# EAGLE library part TJCTM24028 (library project library)
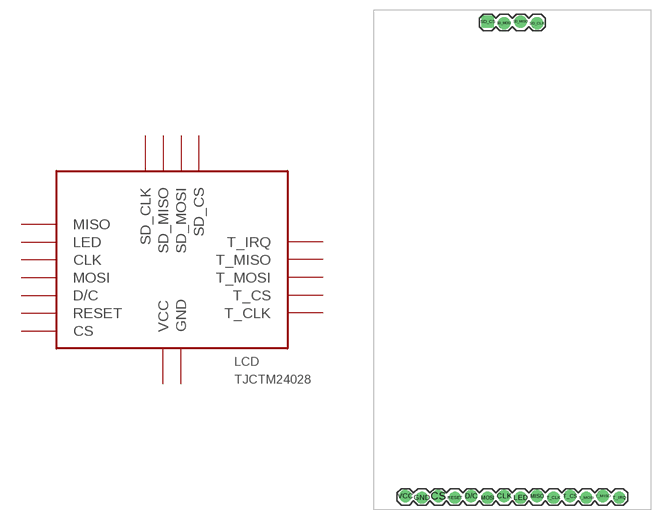
[diagram p2: symbol with the pads of TJCTM24028-SPI; footprint TJCTM24028-SPI]

Designator prefix LCD

## TJCTM24028  [TJCTM24028-SPI]
CLK  CLK
CS  CS
D/C  D/C
GND  GND
LED  LED
MISO  MISO
MOSI  MOSI
RESET  RESET
SD_CLK  SD_CLK
SD_CS  SD_CS
SD_MISO  SD_MISO
SD_MOSI  SD_MOSI
T_CLK  T_CLK
T_CS  T_CS
T_IRQ  T_IRQ
T_MISO  T_MISO
T_MOSI  T_MOSI
VCC  VCC

## Footprint TJCTM24028-SPI (pad centres in mm)
drill 1.016 pad 1.88: CLK 15.24,0.127; CS 5.08,0.127; D/C 10.16,0.127; GND 2.54,-0.127; LED 17.78,-0.127; MISO 20.32,0.127; MOSI 12.7,-0.127; RESET 7.62,-0.127; SD_CLK 20.32,73.083; SD_MISO 17.78,73.337; SD_MOSI 15.24,73.083; T_CLK 22.86,-0.127; T_CS 25.4,0.127; T_IRQ 33.02,-0.127; T_MISO 30.48,0.127; T_MOSI 27.94,-0.127; VCC 0,0.127
drill 1.016 pad 1.88 square: SD_CS 12.7,73.337